# EAGLE library part ATTINYX4-16 (library Atmel)
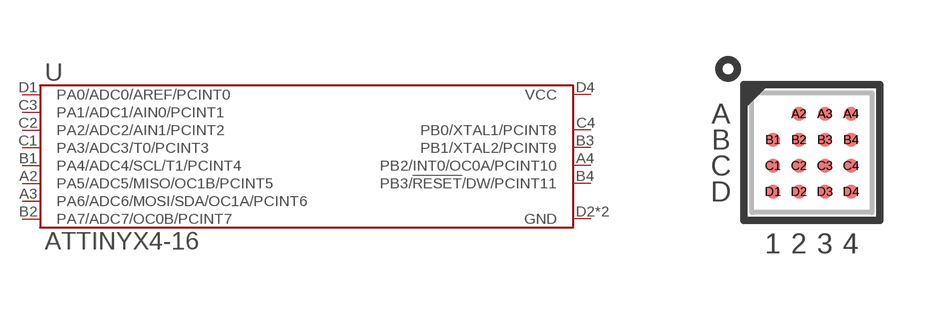
[diagram p17: symbol with the pads of UFBGA-15; footprint UFBGA-15]

Designator prefix U

## ATTINYX4-16-CCU  [UFBGA-15]
A2  PA5/ADC5/MISO/OC1B/PCINT5
A3  PA6/ADC6/MOSI/SDA/OC1A/PCINT6
A4  PB2/INT0/OC0A/PCINT10
B1  PA4/ADC4/SCL/T1/PCINT4
B2  PA7/ADC7/OC0B/PCINT7
B3  PB1/XTAL2/PCINT9
B4  PB3/!RESET!/DW/PCINT11
C1  PA3/ADC3/T0/PCINT3
C2  PA2/ADC2/AIN1/PCINT2
C3  PA1/ADC1/AIN0/PCINT1
C4  PB0/XTAL1/PCINT8
D1  PA0/ADC0/AREF/PCINT0
D2  GND
D3  GND
D4  VCC

## Footprint UFBGA-15 (pad centres in mm)
smd 0.35 x 0.35: A2 -0.325,0.975; A3 0.325,0.975; A4 0.975,0.975; B1 -0.975,0.325; B2 -0.325,0.325; B3 0.325,0.325; B4 0.975,0.325; C1 -0.975,-0.325; C2 -0.325,-0.325; C3 0.325,-0.325; C4 0.975,-0.325; D1 -0.975,-0.975; D2 -0.325,-0.975; D3 0.325,-0.975; D4 0.975,-0.975